# Altium integrated library MMBT1015.IntLib: 1 symbol
Pins are listed as number, name and electrical type; pins without a type are passive.

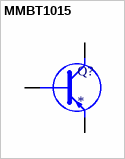
[diagram p0: symbol MMBT1015]

## MMBT1015
designator Q?
Bipolar (BJT) Transistor PNP 20 V 1.5 A 180MHz 625 mW Surface Mount SOT-23-3; MP: FMMT718TA; MF: Diodes Inc.; SnapEDA_Link: https://www.snapeda.com/parts/FMMT718TA/Diodes+Inc./view-part/?ref=snap; Availability: In Stock; Price: None; Purchase-URL: https://pricing.snapeda.com/search/part/FMMT718TA/?ref=eda; Value: *; Check_prices: https://www.snapeda.com/parts/FMMT718TA/Diodes+Inc./view-part/?ref=eda; Package: SOT-23-3 Diodes Inc.
footprint MMBT1015
pins: 1 B, 2 E, 3 C